# EAGLE library part LSM6DS3 (library bluepill)
lsm
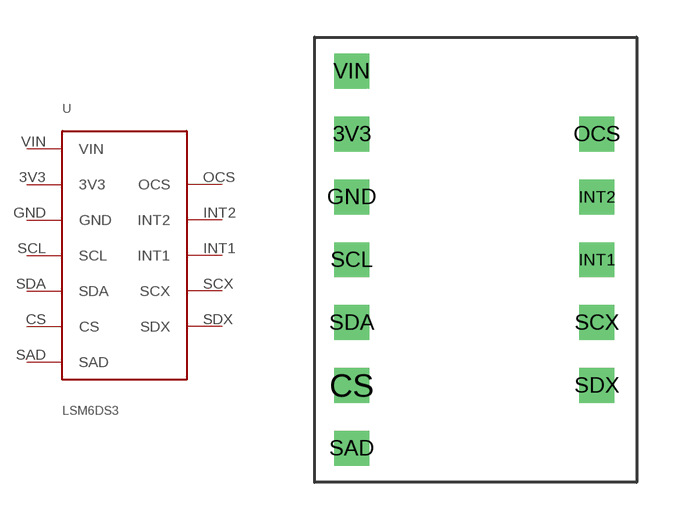
[diagram p8: symbol with the pads of LSM6DS3; footprint LSM6DS3]

Designator prefix -

## LSM6DS3  [LSM6DS3]
3V3  3V3
CS  CS
GND  GND
INT1  INT1
INT2  INT2
OCS  OCS
SAD  SAD
SCL  SCL
SCX  SCX
SDA  SDA
SDX  SDX
VIN  VIN

## Footprint LSM6DS3 (pad centres in mm)
lsm
drill 0.9 square: 3V3 -5,5.08; CS -5,-5.08; GND -5,2.54; INT1 4.9,0; INT2 4.9,2.54; OCS 4.9,5.08; SAD -5,-7.62; SCL -5,0; SCX 4.9,-2.54; SDA -5,-2.54; SDX 4.9,-5.08; VIN -5,7.62